# Altium footprint library PCB Footprints.PcbLib: 316 footprints (part 9 of 21)
Each footprint in its own frame and in the unit in brackets; x right, y up, seen from the top. Pads: shape width x height; smd on the part's side, far side on the other; paste and mask are expansions set on the pad; w line width, h text height; cw(c..) or ccw(c..) is an arc to the next point about the centre after c.
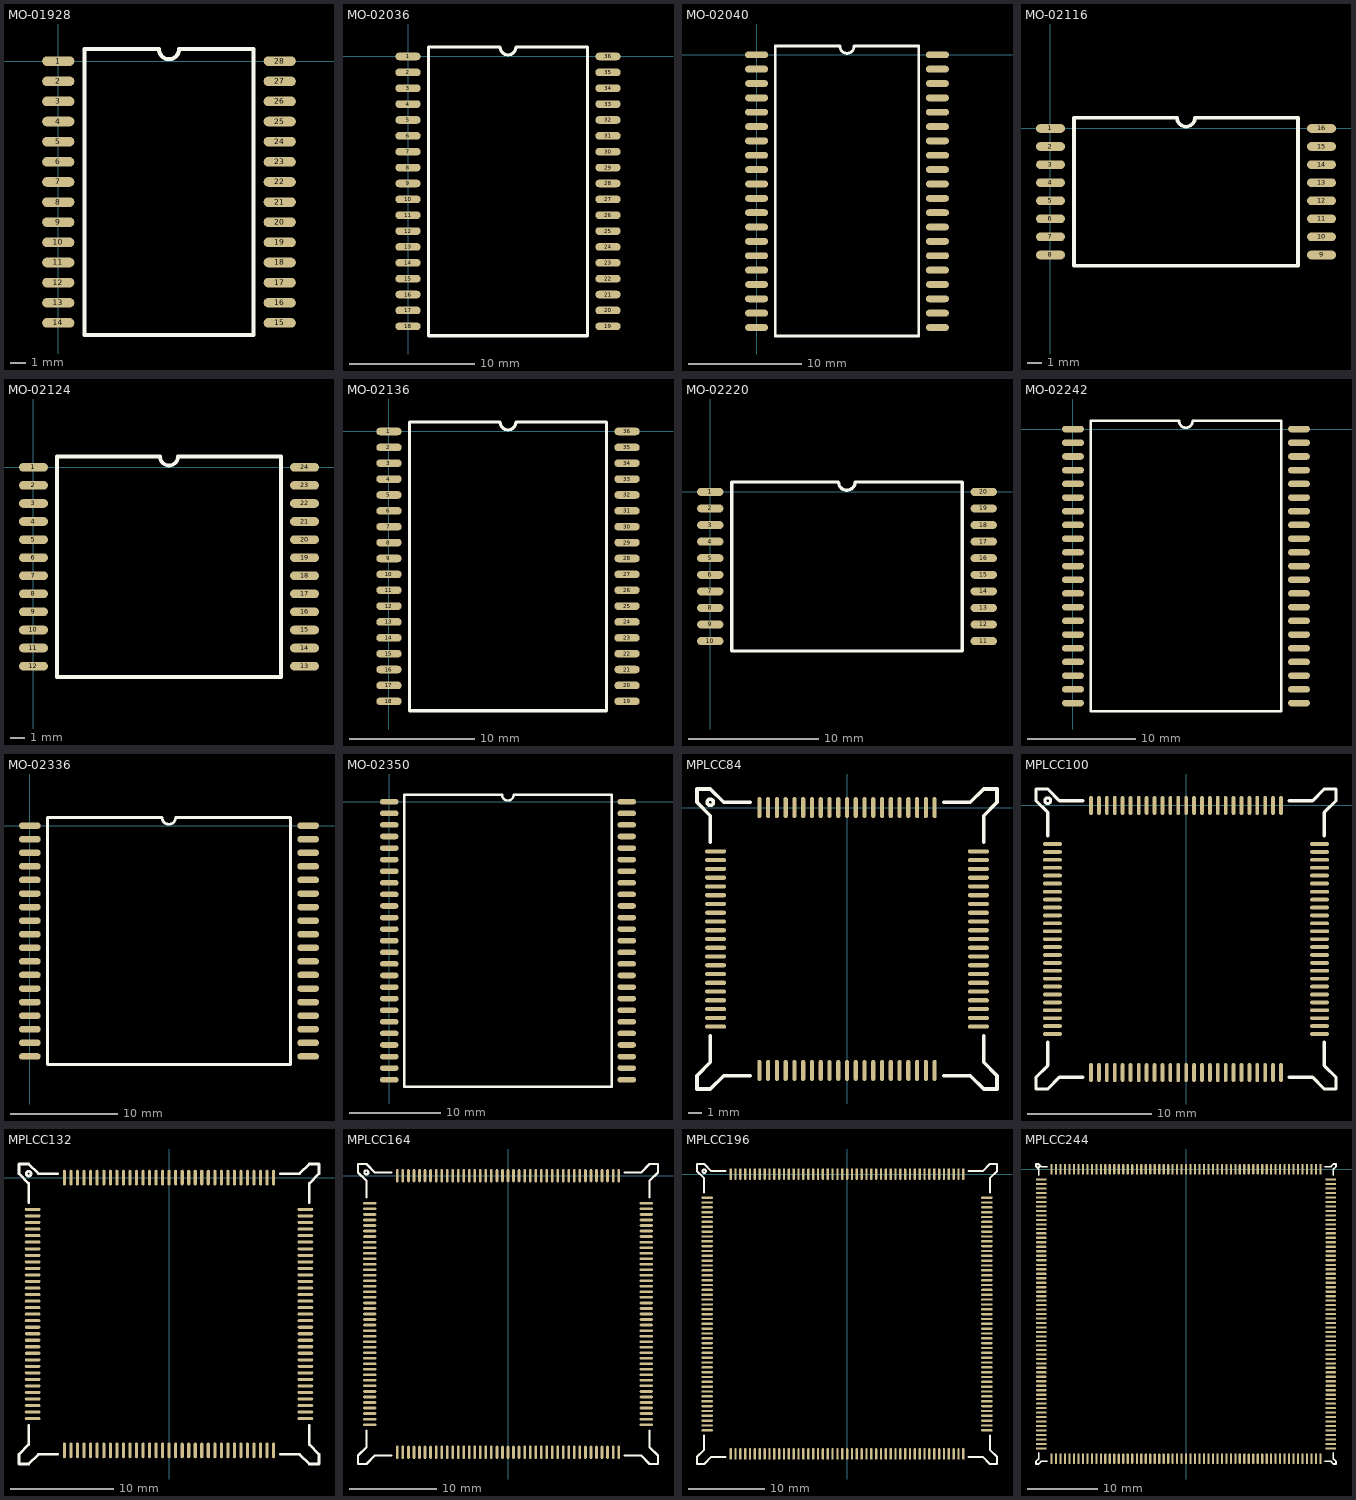
[diagram p8: the footprints below, top view; thin cyan lines are the x and y axes]

## MO-01928 [mil]
pads (28):
  oval 80x24 smd: 1(0,0) 2(0,-50) 3(0,-100) 4(0,-150) 5(0,-200) 6(0,-250) 7(0,-300) 8(0,-350) 9(0,-400) 10(0,-450) 11(0,-500) 12(0,-550) 13(0,-600) 14(0,-650) 15(550,-650) 16(550,-600) 17(550,-550) 18(550,-500) 19(550,-450) 20(550,-400) 21(550,-350) 22(550,-300) 23(550,-250) 24(550,-200) 25(550,-150) 26(550,-100) 27(550,-50) 28(550,0)
TopOverlay:
  lines w10: 65,-680 65,30 250,30 ccw(c275,30) 300,30 485,30 485,-680 65,-680

## MO-02036 [mil]
pads (36):
  oval 80x24 smd: 1(0,0) 2(0,-50) 3(0,-100) 4(0,-150) 5(0,-200) 6(0,-250) 7(0,-300) 8(0,-350) 9(0,-400) 10(0,-450) 11(0,-500) 12(0,-550) 13(0,-600) 14(0,-650) 15(0,-700) 16(0,-750) 17(0,-800) 18(0,-850) 19(630,-850) 20(630,-800) 21(630,-750) 22(630,-700) 23(630,-650) 24(630,-600) 25(630,-550) 26(630,-500) 27(630,-450) 28(630,-400) 29(630,-350) 30(630,-300) 31(630,-250) 32(630,-200) 33(630,-150) 34(630,-100) 35(630,-50) 36(630,0)
TopOverlay:
  lines w10: 65,-880 65,30 290,30 ccw(c315,30) 340,30 565,30 565,-880 65,-880

## MO-02040 [mil]
pads (40):
  oval 80x24 smd: 1(0,0) 2(0,-50) 3(0,-100) 4(0,-150) 5(0,-200) 6(0,-250) 7(0,-300) 8(0,-350) 9(0,-400) 10(0,-450) 11(0,-500) 12(0,-550) 13(0,-600) 14(0,-650) 15(0,-700) 16(0,-750) 17(0,-800) 18(0,-850) 19(0,-900) 20(0,-950) 21(630,-950) 22(630,-900) 23(630,-850) 24(630,-800) 25(630,-750) 26(630,-700) 27(630,-650) 28(630,-600) 29(630,-550) 30(630,-500) 31(630,-450) 32(630,-400) 33(630,-350) 34(630,-300) 35(630,-250) 36(630,-200) 37(630,-150) 38(630,-100) 39(630,-50) 40(630,0)
TopOverlay:
  lines w10: 65,-980 65,30 290,30 ccw(c315,30) 340,30 565,30 565,-980 65,-980

## MO-02116 [mil]
pads (16):
  oval 80x24 smd: 1(0,0) 2(0,-50) 3(0,-100) 4(0,-150) 5(0,-200) 6(0,-250) 7(0,-300) 8(0,-350) 9(750,-350) 10(750,-300) 11(750,-250) 12(750,-200) 13(750,-150) 14(750,-100) 15(750,-50) 16(750,0)
TopOverlay:
  lines w10: 65,-380 65,30 350,30 ccw(c375,30) 400,30 685,30 685,-380 65,-380

## MO-02124 [mil]
pads (24):
  oval 80x24 smd: 1(0,0) 2(0,-50) 3(0,-100) 4(0,-150) 5(0,-200) 6(0,-250) 7(0,-300) 8(0,-350) 9(0,-400) 10(0,-450) 11(0,-500) 12(0,-550) 13(750,-550) 14(750,-500) 15(750,-450) 16(750,-400) 17(750,-350) 18(750,-300) 19(750,-250) 20(750,-200) 21(750,-150) 22(750,-100) 23(750,-50) 24(750,0)
TopOverlay:
  lines w10: 65,-580 65,30 350,30 ccw(c375,30) 400,30 685,30 685,-580 65,-580

## MO-02136 [mil]
pads (36):
  oval 80x24 smd: 1(0,0) 2(0,-50) 3(0,-100) 4(0,-150) 5(0,-200) 6(0,-250) 7(0,-300) 8(0,-350) 9(0,-400) 10(0,-450) 11(0,-500) 12(0,-550) 13(0,-600) 14(0,-650) 15(0,-700) 16(0,-750) 17(0,-800) 18(0,-850) 19(750,-850) 20(750,-800) 21(750,-750) 22(750,-700) 23(750,-650) 24(750,-600) 25(750,-550) 26(750,-500) 27(750,-450) 28(750,-400) 29(750,-350) 30(750,-300) 31(750,-250) 32(750,-200) 33(750,-150) 34(750,-100) 35(750,-50) 36(750,0)
TopOverlay:
  lines w10: 65,-880 65,30 350,30 ccw(c375,30) 400,30 685,30 685,-880 65,-880

## MO-02220 [mil]
pads (20):
  oval 80x24 smd: 1(0,0) 2(0,-50) 3(0,-100) 4(0,-150) 5(0,-200) 6(0,-250) 7(0,-300) 8(0,-350) 9(0,-400) 10(0,-450) 11(825,-450) 12(825,-400) 13(825,-350) 14(825,-300) 15(825,-250) 16(825,-200) 17(825,-150) 18(825,-100) 19(825,-50) 20(825,0)
TopOverlay:
  lines w10: 65,-480 65,30 387,30 ccw(c412,30) 437,30 760,30 760,-480 65,-480

## MO-02242 [mil]
pads (42):
  oval 80x24 smd: 1(0,0) 2(0,-50) 3(0,-100) 4(0,-150) 5(0,-200) 6(0,-250) 7(0,-300) 8(0,-350) 9(0,-400) 10(0,-450) 11(0,-500) 12(0,-550) 13(0,-600) 14(0,-650) 15(0,-700) 16(0,-750) 17(0,-800) 18(0,-850) 19(0,-900) 20(0,-950) 21(0,-1000) 22(825,-1000) 23(825,-950) 24(825,-900) 25(825,-850) 26(825,-800) 27(825,-750) 28(825,-700) 29(825,-650) 30(825,-600) 31(825,-550) 32(825,-500) 33(825,-450) 34(825,-400) 35(825,-350) 36(825,-300) 37(825,-250) 38(825,-200) 39(825,-150) 40(825,-100) 41(825,-50) 42(825,0)
TopOverlay:
  lines w10: 65,-1030 65,30 387,30 ccw(c412,30) 437,30 760,30 760,-1030 65,-1030

## MO-02336 [mil]
pads (36):
  oval 80x24 smd: 1(0,0) 2(0,-50) 3(0,-100) 4(0,-150) 5(0,-200) 6(0,-250) 7(0,-300) 8(0,-350) 9(0,-400) 10(0,-450) 11(0,-500) 12(0,-550) 13(0,-600) 14(0,-650) 15(0,-700) 16(0,-750) 17(0,-800) 18(0,-850) 19(1025,-850) 20(1025,-800) 21(1025,-750) 22(1025,-700) 23(1025,-650) 24(1025,-600) 25(1025,-550) 26(1025,-500) 27(1025,-450) 28(1025,-400) 29(1025,-350) 30(1025,-300) 31(1025,-250) 32(1025,-200) 33(1025,-150) 34(1025,-100) 35(1025,-50) 36(1025,0)
TopOverlay:
  lines w10: 65,-880 65,30 487,30 ccw(c512,30) 537,30 960,30 960,-880 65,-880

## MO-02350 [mil]
pads (50):
  oval 80x24 smd: 1(0,0) 2(0,-50) 3(0,-100) 4(0,-150) 5(0,-200) 6(0,-250) 7(0,-300) 8(0,-350) 9(0,-400) 10(0,-450) 11(0,-500) 12(0,-550) 13(0,-600) 14(0,-650) 15(0,-700) 16(0,-750) 17(0,-800) 18(0,-850) 19(0,-900) 20(0,-950) 21(0,-1000) 22(0,-1050) 23(0,-1100) 24(0,-1150) 25(0,-1200) 26(1025,-1200) 27(1025,-1150) 28(1025,-1100) 29(1025,-1050) 30(1025,-1000) 31(1025,-950) 32(1025,-900) 33(1025,-850) 34(1025,-800) 35(1025,-750) 36(1025,-700) 37(1025,-650) 38(1025,-600) 39(1025,-550) 40(1025,-500) 41(1025,-450) 42(1025,-400) 43(1025,-350) 44(1025,-300) 45(1025,-250) 46(1025,-200) 47(1025,-150) 48(1025,-100) 49(1025,-50) 50(1025,0)
TopOverlay:
  lines w10: 65,-1230 65,30 487,30 ccw(c512,30) 537,30 960,30 960,-1230 65,-1230

## MPLCC84 [mil]
pads (84):
  oval 12x60 smd: 1(0,0) 2(-25,0) 3(-50,0) 4(-75,0) 5(-100,0) 6(-125,0) 7(-150,0) 8(-175,0) 9(-200,0) 10(-225,0) 11(-250,0) 33(-250,-750) 34(-225,-750) 35(-200,-750) 36(-175,-750) 37(-150,-750) 38(-125,-750) 39(-100,-750) 40(-75,-750) 41(-50,-750) 42(-25,-750) 43(0,-750) 44(25,-750) 45(50,-750) 46(75,-750) 47(100,-750) 48(125,-750) 49(150,-750) 50(175,-750) 51(200,-750) 52(225,-750) 53(250,-750) 75(250,0) 76(225,0) 77(200,0) 78(175,0) 79(150,0) 80(125,0) 81(100,0) 82(75,0) 83(50,0) 84(25,0)
  oval 60x12 smd: 12(-375,-125) 13(-375,-150) 14(-375,-175) 15(-375,-200) 16(-375,-225) 17(-375,-250) 18(-375,-275) 19(-375,-300) 20(-375,-325) 21(-375,-350) 22(-375,-375) 23(-375,-400) 24(-375,-425) 25(-375,-450) 26(-375,-475) 27(-375,-500) 28(-375,-525) 29(-375,-550) 30(-375,-575) 31(-375,-600) 32(-375,-625) 54(375,-625) 55(375,-600) 56(375,-575) 57(375,-550) 58(375,-525) 59(375,-500) 60(375,-475) 61(375,-450) 62(375,-425) 63(375,-400) 64(375,-375) 65(375,-350) 66(375,-325) 67(375,-300) 68(375,-275) 69(375,-250) 70(375,-225) 71(375,-200) 72(375,-175) 73(375,-150) 74(375,-125)
TopOverlay:
  circle w10: c-390,15 r9
  lines w10: -390,-651 -390,-727 -428,-765 -428,-803 -390,-803 -352,-765 -276,-765 ; -390,-99 -390,-23 -428,15 -428,53 -390,53 -352,15 -276,15 ; 276,-765 352,-765 390,-803 428,-803 428,-765 390,-727 390,-651 ; 276,15 352,15 390,53 428,53 428,15 390,-23 390,-99

## MPLCC100 [mil]
pads (100):
  oval 12x60 smd: 1(0,0) 2(-25,0) 3(-50,0) 4(-75,0) 5(-100,0) 6(-125,0) 7(-150,0) 8(-176,0) 9(-201,0) 10(-226,0) 11(-251,0) 12(-276,0) 13(-301,0) 39(-301,-845) 40(-276,-845) 41(-251,-845) 42(-226,-845) 43(-201,-845) 44(-176,-845) 45(-150,-845) 46(-125,-845) 47(-100,-845) 48(-75,-845) 49(-50,-845) 50(-25,-845) 51(0,-845) 52(25,-845) 53(50,-845) 54(75,-845) 55(100,-845) 56(125,-845) 57(150,-845) 58(175,-845) 59(200,-845) 60(225,-845) 61(250,-845) 62(275,-845) 63(300,-845) 89(300,0) 90(275,0) 91(250,0) 92(225,0) 93(200,0) 94(175,0) 95(150,0) 96(125,0) 97(100,0) 98(75,0) 99(50,0) 100(25,0)
  oval 60x12 smd: 14(-423,-122) 15(-423,-147) 16(-423,-172) 17(-423,-197) 18(-423,-222) 19(-423,-247) 20(-423,-273) 21(-423,-298) 22(-423,-323) 23(-423,-348) 24(-423,-373) 25(-423,-398) 26(-423,-423) 27(-423,-448) 28(-423,-473) 29(-423,-498) 30(-423,-523) 31(-423,-548) 32(-423,-573) 33(-423,-598) 34(-423,-623) 35(-423,-648) 36(-423,-673) 37(-423,-698) 38(-423,-723) 64(422,-723) 65(422,-698) 66(422,-673) 67(422,-648) 68(422,-623) 69(422,-598) 70(422,-573) 71(422,-548) 72(422,-523) 73(422,-498) 74(422,-473) 75(422,-448) 76(422,-423) 77(422,-398) 78(422,-373) 79(422,-348) 80(422,-323) 81(422,-298) 82(422,-273) 83(422,-247) 84(422,-222) 85(422,-197) 86(422,-172) 87(422,-147) 88(422,-122)
TopOverlay:
  circle w10: c-438,15 r9
  lines w10: -438,-749 -438,-823 -475,-860 -475,-897 -438,-897 -401,-860 -327,-860 ; -438,-96 -438,-22 -475,15 -475,52 -438,52 -401,15 -327,15 ; 326,-860 400,-860 437,-897 474,-897 474,-860 437,-823 437,-749 ; 326,15 400,15 437,52 474,52 474,15 437,-22 437,-96

## MPLCC132 [mil]
pads (132):
  oval 12x60 smd: 1(0,0) 2(-25,0) 3(-50,0) 4(-75,0) 5(-100,0) 6(-125,0) 7(-150,0) 8(-175,0) 9(-200,0) 10(-225,0) 11(-250,0) 12(-276,0) 13(-301,0) 14(-326,0) 15(-351,0) 16(-376,0) 17(-401,0) 51(-401,-1045) 52(-376,-1045) 53(-351,-1045) 54(-326,-1045) 55(-301,-1045) 56(-276,-1045) 57(-250,-1045) 58(-225,-1045) 59(-200,-1045) 60(-175,-1045) 61(-150,-1045) 62(-125,-1045) 63(-100,-1045) 64(-75,-1045) 65(-50,-1045) 66(-25,-1045) 67(0,-1045) 68(25,-1045) 69(50,-1045) 70(75,-1045) 71(100,-1045) 72(125,-1045) 73(150,-1045) 74(175,-1045) 75(200,-1045) 76(225,-1045) 77(250,-1045) 78(275,-1045) 79(300,-1045) 80(325,-1045) 81(350,-1045) 82(375,-1045) 83(400,-1045) 117(400,0) 118(375,0) 119(350,0) 120(325,0) 121(300,0) 122(275,0) 123(250,0) 124(225,0) 125(200,0) 126(175,0) 127(150,0) 128(125,0) 129(100,0) 130(75,0) 131(50,0) 132(25,0)
  oval 60x12 smd: 18(-523,-122) 19(-523,-147) 20(-523,-172) 21(-523,-197) 22(-523,-222) 23(-523,-247) 24(-523,-273) 25(-523,-298) 26(-523,-323) 27(-523,-348) 28(-523,-373) 29(-523,-398) 30(-523,-423) 31(-523,-448) 32(-523,-473) 33(-523,-498) 34(-523,-523) 35(-523,-548) 36(-523,-573) 37(-523,-598) 38(-523,-623) 39(-523,-648) 40(-523,-673) 41(-523,-698) 42(-523,-723) 43(-523,-748) 44(-523,-773) 45(-523,-798) 46(-523,-823) 47(-523,-848) 48(-523,-873) 49(-523,-898) 50(-523,-923) 84(522,-923) 85(522,-898) 86(522,-873) 87(522,-848) 88(522,-823) 89(522,-798) 90(522,-773) 91(522,-748) 92(522,-723) 93(522,-698) 94(522,-673) 95(522,-648) 96(522,-623) 97(522,-598) 98(522,-573) 99(522,-548) 100(522,-523) 101(522,-498) 102(522,-473) 103(522,-448) 104(522,-423) 105(522,-398) 106(522,-373) 107(522,-348) 108(522,-323) 109(522,-298) 110(522,-273) 111(522,-247) 112(522,-222) 113(522,-197) 114(522,-172) 115(522,-147) 116(522,-122)
TopOverlay:
  circle w10: c-538,15 r9
  lines w10: -538,-949 -538,-1023 -575,-1060 -575,-1097 -538,-1097 -501,-1060 -427,-1060 ; -538,-96 -538,-22 -575,15 -575,52 -538,52 -501,15 -427,15 ; 426,-1060 500,-1060 537,-1097 574,-1097 574,-1060 537,-1023 537,-949 ; 426,15 500,15 537,52 574,52 574,15 537,-22 537,-96

## MPLCC164 [mil]
pads (164):
  oval 12x60 smd: 1(0,0) 2(-25,0) 3(-50,0) 4(-75,0) 5(-100,0) 6(-125,0) 7(-150,0) 8(-175,0) 9(-200,0) 10(-225,0) 11(-250,0) 12(-275,0) 13(-300,0) 14(-325,0) 15(-350,0) 16(-375,0) 17(-400,0) 18(-425,0) 19(-450,0) 20(-475,0) 21(-500,0) 63(-500,-1250) 64(-475,-1250) 65(-450,-1250) 66(-425,-1250) 67(-400,-1250) 68(-375,-1250) 69(-350,-1250) 70(-325,-1250) 71(-300,-1250) 72(-275,-1250) 73(-250,-1250) 74(-225,-1250) 75(-200,-1250) 76(-175,-1250) 77(-150,-1250) 78(-125,-1250) 79(-100,-1250) 80(-75,-1250) 81(-50,-1250) 82(-25,-1250) 83(0,-1250) 84(25,-1250) 85(50,-1250) 86(75,-1250) 87(100,-1250) 88(125,-1250) 89(150,-1250) 90(175,-1250) 91(200,-1250) 92(225,-1250) 93(250,-1250) 94(275,-1250) 95(300,-1250) 96(325,-1250) 97(350,-1250) 98(375,-1250) 99(400,-1250) 100(425,-1250) 101(450,-1250) 102(475,-1250) 103(500,-1250) 145(500,0) 146(475,0) 147(450,0) 148(425,0) 149(400,0) 150(375,0) 151(350,0) 152(325,0) 153(300,0) 154(275,0) 155(250,0) 156(225,0) 157(200,0) 158(175,0) 159(150,0) 160(125,0) 161(100,0) 162(75,0) 163(50,0) 164(25,0)
  oval 60x12 smd: 22(-625,-125) 23(-625,-150) 24(-625,-175) 25(-625,-200) 26(-625,-225) 27(-625,-250) 28(-625,-275) 29(-625,-300) 30(-625,-325) 31(-625,-350) 32(-625,-375) 33(-625,-400) 34(-625,-425) 35(-625,-450) 36(-625,-475) 37(-625,-500) 38(-625,-525) 39(-625,-550) 40(-625,-575) 41(-625,-600) 42(-625,-625) 43(-625,-650) 44(-625,-675) 45(-625,-700) 46(-625,-725) 47(-625,-750) 48(-625,-775) 49(-625,-800) 50(-625,-825) 51(-625,-850) 52(-625,-875) 53(-625,-900) 54(-625,-925) 55(-625,-950) 56(-625,-975) 57(-625,-1000) 58(-625,-1025) 59(-625,-1050) 60(-625,-1075) 61(-625,-1100) 62(-625,-1125) 104(625,-1125) 105(625,-1100) 106(625,-1075) 107(625,-1050) 108(625,-1025) 109(625,-1000) 110(625,-975) 111(625,-950) 112(625,-925) 113(625,-900) 114(625,-875) 115(625,-850) 116(625,-825) 117(625,-800) 118(625,-775) 119(625,-750) 120(625,-725) 121(625,-700) 122(625,-675) 123(625,-650) 124(625,-625) 125(625,-600) 126(625,-575) 127(625,-550) 128(625,-525) 129(625,-500) 130(625,-475) 131(625,-450) 132(625,-425) 133(625,-400) 134(625,-375) 135(625,-350) 136(625,-325) 137(625,-300) 138(625,-275) 139(625,-250) 140(625,-225) 141(625,-200) 142(625,-175) 143(625,-150) 144(625,-125)
TopOverlay:
  circle w10: c-640,15 r9
  lines w10: -640,-1151 -640,-1227 -678,-1265 -678,-1303 -640,-1303 -602,-1265 -526,-1265 ; -640,-99 -640,-23 -678,15 -678,53 -640,53 -602,15 -526,15 ; 526,-1265 602,-1265 640,-1303 678,-1303 678,-1265 640,-1227 640,-1151 ; 526,15 602,15 640,53 678,53 678,15 640,-23 640,-99

## MPLCC196 [mil]
pads (196):
  oval 12x60 smd: 1(0,0) 2(-25,0) 3(-50,0) 4(-75,0) 5(-100,0) 6(-125,0) 7(-150,0) 8(-175,0) 9(-200,0) 10(-226,0) 11(-251,0) 12(-276,0) 13(-301,0) 14(-326,0) 15(-351,0) 16(-376,0) 17(-401,0) 18(-426,0) 19(-451,0) 20(-476,0) 21(-501,0) 22(-526,0) 23(-551,0) 24(-576,0) 25(-601,0) 75(-601,-1445) 76(-576,-1445) 77(-551,-1445) 78(-526,-1445) 79(-501,-1445) 80(-476,-1445) 81(-451,-1445) 82(-426,-1445) 83(-401,-1445) 84(-376,-1445) 85(-351,-1445) 86(-326,-1445) 87(-301,-1445) 88(-276,-1445) 89(-251,-1445) 90(-226,-1445) 91(-200,-1445) 92(-175,-1445) 93(-150,-1445) 94(-125,-1445) 95(-100,-1445) 96(-75,-1445) 97(-50,-1445) 98(-25,-1445) 99(0,-1445) 100(25,-1445) 101(50,-1445) 102(75,-1445) 103(100,-1445) 104(125,-1445) 105(150,-1445) 106(175,-1445) 107(200,-1445) 108(225,-1445) 109(250,-1445) 110(275,-1445) 111(300,-1445) 112(325,-1445) 113(350,-1445) 114(375,-1445) 115(400,-1445) 116(425,-1445) 117(450,-1445) 118(475,-1445) 119(500,-1445) 120(525,-1445) 121(550,-1445) 122(575,-1445) 123(600,-1445) 173(600,0) 174(575,0) 175(550,0) 176(525,0) 177(500,0) 178(475,0) 179(450,0) 180(425,0) 181(400,0) 182(375,0) 183(350,0) 184(325,0) 185(300,0) 186(275,0) 187(250,0) 188(225,0) 189(200,0) 190(175,0) 191(150,0) 192(125,0) 193(100,0) 194(75,0) 195(50,0) 196(25,0)
  oval 60x12 smd: 26(-723,-122) 27(-723,-147) 28(-723,-172) 29(-723,-197) 30(-723,-222) 31(-723,-247) 32(-723,-272) 33(-723,-297) 34(-723,-322) 35(-723,-347) 36(-723,-372) 37(-723,-397) 38(-723,-422) 39(-723,-447) 40(-723,-472) 41(-723,-497) 42(-723,-523) 43(-723,-548) 44(-723,-573) 45(-723,-598) 46(-723,-623) 47(-723,-648) 48(-723,-673) 49(-723,-698) 50(-723,-723) 51(-723,-748) 52(-723,-773) 53(-723,-798) 54(-723,-823) 55(-723,-848) 56(-723,-873) 57(-723,-898) 58(-723,-923) 59(-723,-948) 60(-723,-973) 61(-723,-998) 62(-723,-1023) 63(-723,-1048) 64(-723,-1073) 65(-723,-1098) 66(-723,-1123) 67(-723,-1148) 68(-723,-1173) 69(-723,-1198) 70(-723,-1223) 71(-723,-1248) 72(-723,-1273) 73(-723,-1298) 74(-723,-1323) 124(722,-1323) 125(722,-1298) 126(722,-1273) 127(722,-1248) 128(722,-1223) 129(722,-1198) 130(722,-1173) 131(722,-1148) 132(722,-1123) 133(722,-1098) 134(722,-1073) 135(722,-1048) 136(722,-1023) 137(722,-998) 138(722,-973) 139(722,-948) 140(722,-923) 141(722,-898) 142(722,-873) 143(722,-848) 144(722,-823) 145(722,-798) 146(722,-773) 147(722,-748) 148(722,-723) 149(722,-698) 150(722,-673) 151(722,-648) 152(722,-623) 153(722,-598) 154(722,-573) 155(722,-548) 156(722,-523) 157(722,-497) 158(722,-472) 159(722,-447) 160(722,-422) 161(722,-397) 162(722,-372) 163(722,-347) 164(722,-322) 165(722,-297) 166(722,-272) 167(722,-247) 168(722,-222) 169(722,-197) 170(722,-172) 171(722,-147) 172(722,-122)
TopOverlay:
  circle w10: c-738,15 r9
  lines w10: -738,-1349 -738,-1423 -775,-1460 -775,-1497 -738,-1497 -701,-1460 -627,-1460 ; -738,-96 -738,-22 -775,15 -775,52 -738,52 -701,15 -627,15 ; 626,-1460 700,-1460 737,-1497 774,-1497 774,-1460 737,-1423 737,-1349 ; 626,15 700,15 737,52 774,52 774,15 737,-22 737,-96

## MPLCC244 [mil]
pads (244):
  oval 12x60 smd: 1(0,0) 2(-25,0) 3(-50,0) 4(-75,0) 5(-100,0) 6(-125,0) 7(-150,0) 8(-175,0) 9(-200,0) 10(-225,0) 11(-250,0) 12(-275,0) 13(-301,0) 14(-326,0) 15(-351,0) 16(-376,0) 17(-401,0) 18(-426,0) 19(-451,0) 20(-476,0) 21(-501,0) 22(-526,0) 23(-551,0) 24(-576,0) 25(-601,0) 26(-626,0) 27(-651,0) 28(-676,0) 29(-701,0) 30(-726,0) 31(-751,0) 93(-751,-1615) 94(-726,-1615) 95(-701,-1615) 96(-676,-1615) 97(-651,-1615) 98(-626,-1615) 99(-601,-1615) 100(-576,-1615) 101(-551,-1615) 102(-526,-1615) 103(-501,-1615) 104(-476,-1615) 105(-451,-1615) 106(-426,-1615) 107(-401,-1615) 108(-376,-1615) 109(-351,-1615) 110(-326,-1615) 111(-301,-1615) 112(-275,-1615) 113(-250,-1615) 114(-225,-1615) 115(-200,-1615) 116(-175,-1615) 117(-150,-1615) 118(-125,-1615) 119(-100,-1615) 120(-75,-1615) 121(-50,-1615) 122(-25,-1615) 123(0,-1615) 124(25,-1615) 125(50,-1615) 126(75,-1615) 127(100,-1615) 128(125,-1615) 129(150,-1615) 130(175,-1615) 131(200,-1615) 132(225,-1615) 133(250,-1615) 134(275,-1615) 135(300,-1615) 136(325,-1615) 137(350,-1615) 138(375,-1615) 139(400,-1615) 140(425,-1615) 141(450,-1615) 142(475,-1615) 143(500,-1615) 144(525,-1615) 145(550,-1615) 146(575,-1615) 147(600,-1615) 148(625,-1615) 149(650,-1615) 150(675,-1615) 151(700,-1615) 152(725,-1615) 153(750,-1615) 215(750,0) 216(725,0) 217(700,0) 218(675,0) 219(650,0) 220(625,0) 221(600,0) 222(575,0) 223(550,0) 224(525,0) 225(500,0) 226(475,0) 227(450,0) 228(425,0) 229(400,0) 230(375,0) 231(350,0) 232(325,0) 233(300,0) 234(275,0) 235(250,0) 236(225,0) 237(200,0) 238(175,0) 239(150,0) 240(125,0) 241(100,0) 242(75,0) 243(50,0) 244(25,0)
  oval 60x12 smd: 32(-808,-57) 33(-808,-82) 34(-808,-107) 35(-808,-132) 36(-808,-157) 37(-808,-182) 38(-808,-207) 39(-808,-232) 40(-808,-257) 41(-808,-282) 42(-808,-307) 43(-808,-332) 44(-808,-357) 45(-808,-382) 46(-808,-407) 47(-808,-432) 48(-808,-457) 49(-808,-482) 50(-808,-507) 51(-808,-533) 52(-808,-558) 53(-808,-583) 54(-808,-608) 55(-808,-633) 56(-808,-658) 57(-808,-683) 58(-808,-708) 59(-808,-733) 60(-808,-758) 61(-808,-783) 62(-808,-808) 63(-808,-833) 64(-808,-858) 65(-808,-883) 66(-808,-908) 67(-808,-933) 68(-808,-958) 69(-808,-983) 70(-808,-1008) 71(-808,-1033) 72(-808,-1058) 73(-808,-1083) 74(-808,-1108) 75(-808,-1133) 76(-808,-1158) 77(-808,-1183) 78(-808,-1208) 79(-808,-1233) 80(-808,-1258) 81(-808,-1283) 82(-808,-1308) 83(-808,-1333) 84(-808,-1358) 85(-808,-1383) 86(-808,-1408) 87(-808,-1433) 88(-808,-1458) 89(-808,-1483) 90(-808,-1508) 91(-808,-1533) 92(-808,-1558) 154(807,-1558) 155(807,-1533) 156(807,-1508) 157(807,-1483) 158(807,-1458) 159(807,-1433) 160(807,-1408) 161(807,-1383) 162(807,-1358) 163(807,-1333) 164(807,-1308) 165(807,-1283) 166(807,-1258) 167(807,-1233) 168(807,-1208) 169(807,-1183) 170(807,-1158) 171(807,-1133) 172(807,-1108) 173(807,-1083) 174(807,-1058) 175(807,-1033) 176(807,-1008) 177(807,-983) 178(807,-958) 179(807,-933) 180(807,-908) 181(807,-883) 182(807,-858) 183(807,-833) 184(807,-808) 185(807,-783) 186(807,-758) 187(807,-733) 188(807,-708) 189(807,-683) 190(807,-658) 191(807,-633) 192(807,-608) 193(807,-583) 194(807,-558) 195(807,-533) 196(807,-507) 197(807,-482) 198(807,-457) 199(807,-432) 200(807,-407) 201(807,-382) 202(807,-357) 203(807,-332) 204(807,-307) 205(807,-282) 206(807,-257) 207(807,-232) 208(807,-207) 209(807,-182) 210(807,-157) 211(807,-132) 212(807,-107) 213(807,-82) 214(807,-57)
TopOverlay:
  circle w10: c-823,15 r3
  lines w10: -823,-1584 -823,-1615 -838,-1630 -838,-1645 -823,-1645 -808,-1630 -777,-1630 ; -823,-31 -823,0 -838,15 -838,30 -823,30 -808,15 -777,15 ; 776,-1630 807,-1630 822,-1645 837,-1645 837,-1630 822,-1615 822,-1584 ; 776,15 807,15 822,30 837,30 837,15 822,0 822,-31